# EAGLE library part 220/330 (library dec-con)
Resistor Terminator Pack
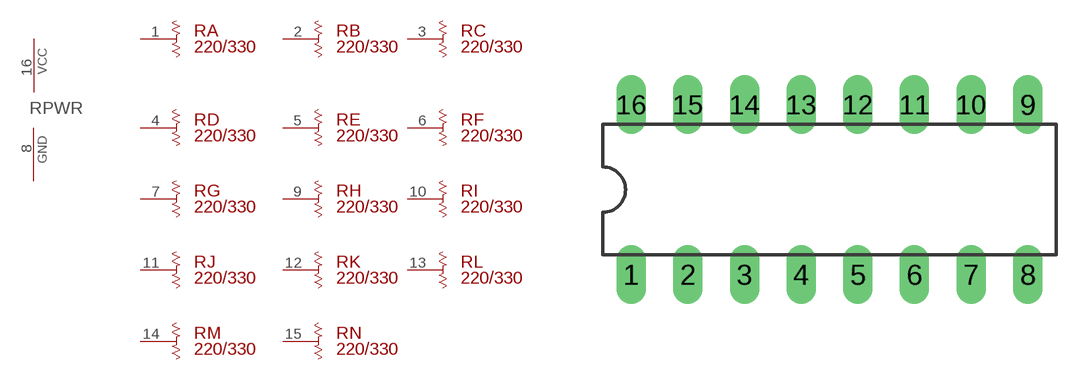
[diagram p65: symbol with the pads of DIL16; footprint DIL16]

Designator prefix R; gates PWR=PWRN A=TERM B=TERM C=TERM D=TERM E=TERM F=TERM G=TERM H=TERM I=TERM J=TERM K=TERM L=TERM M=TERM N=TERM

## 220/330  [DIL16]
1  A:TERM  in
2  B:TERM  in
3  C:TERM  in
4  D:TERM  in
5  E:TERM  in
6  F:TERM  in
7  G:TERM  in
8  PWR:GND  pwr
9  H:TERM  in
10  I:TERM  in
11  J:TERM  in
12  K:TERM  in
13  L:TERM  in
14  M:TERM  in
15  N:TERM  in
16  PWR:VCC  pwr

## Footprint DIL16 (pad centres in mm)
Dual In Line Package
drill 0.813 long: 1 -8.89,-3.81; 2 -6.35,-3.81; 3 -3.81,-3.81; 4 -1.27,-3.81; 5 1.27,-3.81; 6 3.81,-3.81; 7 6.35,-3.81; 8 8.89,-3.81; 9 8.89,3.81; 10 6.35,3.81; 11 3.81,3.81; 12 1.27,3.81; 13 -1.27,3.81; 14 -3.81,3.81; 15 -6.35,3.81; 16 -8.89,3.81